# EAGLE library part DRV8848PWP (library robotter_ic)
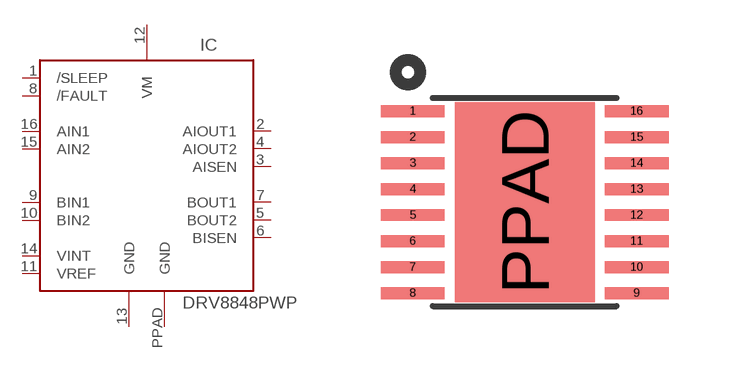
[diagram p28: symbol with the pads of HTSSOP16; footprint HTSSOP16]

Designator prefix IC

## DRV8848PWP  [HTSSOP16]
1  /SLEEP  in
2  AIOUT1  out
3  AISEN  out
4  AIOUT2  out
5  BOUT2  out
6  BISEN  out
7  BOUT1  out
8  /FAULT  oc
9  BIN1  in
10  BIN2  in
11  VREF  in
12  VM  pwr
13  GND  pwr
14  VINT
15  AIN2  in
16  AIN1  in
PPAD  GND  pwr

## Footprint HTSSOP16 (pad centres in mm)
smd 1.6 x 0.3: 1 -2.8,2.275; 2 -2.8,1.625; 3 -2.8,0.975; 4 -2.8,0.325; 5 -2.8,-0.325; 6 -2.8,-0.975; 7 -2.8,-1.625; 8 -2.8,-2.275; 9 2.8,-2.275; 10 2.8,-1.625; 11 2.8,-0.975; 12 2.8,-0.325; 13 2.8,0.325; 14 2.8,0.975; 15 2.8,1.625; 16 2.8,2.275
smd 3.5 x 5: PPAD 0,0